# Altium footprint library IC SMD.PcbLib: 18 footprints (part 1 of 2)
Each footprint in its own frame and in the unit in brackets; x right, y up, seen from the top. Pads: shape width x height; smd on the part's side, far side on the other; paste and mask are expansions set on the pad; w line width, h text height; cw(c..) or ccw(c..) is an arc to the next point about the centre after c.
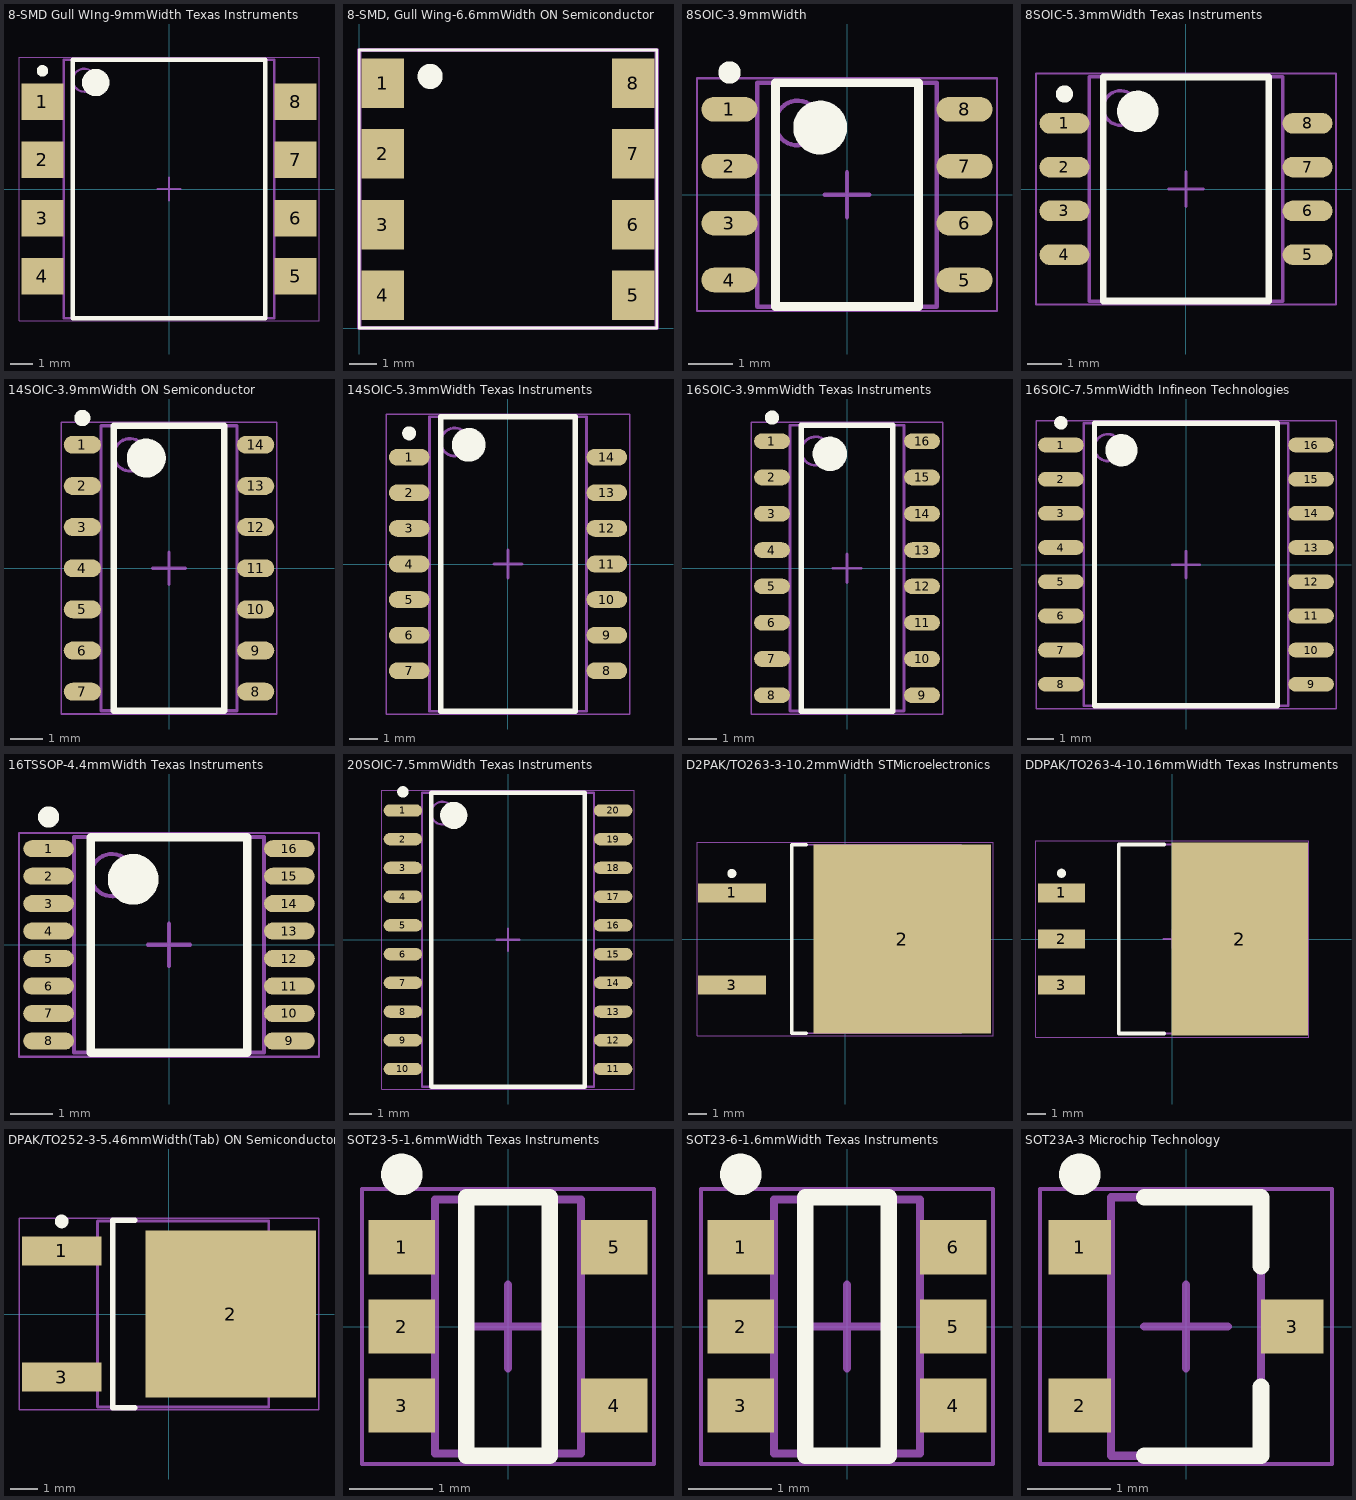
[diagram p0: the footprints below, top view; thin cyan lines are the x and y axes]

## 8-SMD Gull WIng-9mmWidth Texas Instruments [mm] "SOP, 8-Leads, Body 11.15x9.00mm, Pitch 2.54mm, IPC High Density"
height 4
pads (8):
  rect 1.85x1.6 smd: 1(-5.525,3.81) 2(-5.525,1.27) 3(-5.525,-1.27) 4(-5.525,-3.81) 5(5.525,-3.81) 6(5.525,-1.27) 7(5.525,1.27) 8(5.525,3.81)
Top Overlay:
  circle w0.6: c-3.2,4.65 r0.3
  circle w0.25: c-5.525,5.16 r0.125
  lines w0.2: -4.2,-5.65 4.2,-5.65 4.2,5.65 -4.2,5.65 -4.2,-5.65
Mechanical 13:
  circle w0.1: c-3.7,4.75 r0.5
  lines w0.1: -4.6,-5.65 4.6,-5.65 4.6,5.65 -4.6,5.65 -4.6,-5.65
Mechanical 15:
  lines w0.05: -6.55,-5.75 6.55,-5.75 6.55,5.75 -6.55,5.75 -6.55,-5.75
  lines w0.1: -0.5,0 0.5,0 ; 0,-0.5 0,0.5
  text "'.Designator'" at -2.475,2.475 h1
3D body: height 4, standoff 1, extent -4.6,-5.65 4.6,5.65

## 8-SMD, Gull Wing-6.6mmWidth ON Semiconductor [mm] "6.6mmWidth ON Semiconductor"
pads (8):
  rect 1.52x1.78 smd: 1(0.844,8.806) 2(0.844,6.265) 3(0.844,3.721) 4(0.844,1.18) 5(9.854,1.18) 6(9.854,3.721) 7(9.854,6.265) 8(9.854,8.806)
Top Overlay:
  circle w0.5: c2.55,9.05 r0.2
  lines w0.1: 0,0 10.7,0 10.7,10 0,10 0,0
Mechanical 15:
  lines w0.15: 0,0 10.7,0 10.7,10 0,10 0,0
  text "'.Designator'" at 2.875,5.775 h1

## 8SOIC-3.9mmWidth [mm] "SOIC, 8-Leads, Body 4.90x3.90mm, Pitch 1.27mm, IPC High Density"
height 1.65
pads (8):
  oval 1.25x0.55 smd: 1(-2.625,1.905) 2(-2.625,0.635) 3(-2.625,-0.635) 4(-2.625,-1.905) 5(2.625,-1.905) 6(2.625,-0.635) 7(2.625,0.635) 8(2.625,1.905)
Top Overlay:
  circle w0.6: c-0.6,1.5 r0.3
  circle w0.25: c-2.625,2.73 r0.125
  lines w0.2: -1.6,-2.5 1.6,-2.5 1.6,2.5 -1.6,2.5 -1.6,-2.5
Mechanical 13:
  circle w0.1: c-1.1,1.6 r0.5
  lines w0.1: -2,-2.5 2,-2.5 2,2.5 -2,2.5 -2,-2.5
Mechanical 15:
  lines w0.05: -3.35,-2.6 3.35,-2.6 3.35,2.6 -3.35,2.6 -3.35,-2.6
  lines w0.1: -0.5,0 0.5,0 ; 0,-0.5 0,0.5
  text "'.Designator'" at 0.725,2.275 h1
3D body: height 1.65, standoff 0.1, extent -2,-2.5 2,2.5

## 8SOIC-5.3mmWidth Texas Instruments [mm] "SOIC, 8-Leads, Body 6.20x5.30mm, Pitch 1.27mm, IPC High Density"
height 2
pads (8):
  oval 1.45x0.6 smd: 1(-3.525,1.905) 2(-3.525,0.635) 3(-3.525,-0.635) 4(-3.525,-1.905) 5(3.525,-1.905) 6(3.525,-0.635) 7(3.525,0.635) 8(3.525,1.905)
Top Overlay:
  circle w0.6: c-1.4,2.25 r0.3
  circle w0.25: c-3.525,2.755 r0.125
  lines w0.2: -2.4,-3.25 2.4,-3.25 2.4,3.25 -2.4,3.25 -2.4,-3.25
Mechanical 13:
  circle w0.1: c-1.9,2.35 r0.5
  lines w0.1: -2.8,-3.25 2.8,-3.25 2.8,3.25 -2.8,3.25 -2.8,-3.25
Mechanical 15:
  lines w0.05: -4.35,-3.35 4.35,-3.35 4.35,3.35 -4.35,3.35 -4.35,-3.35
  lines w0.1: -0.5,0 0.5,0 ; 0,-0.5 0,0.5
3D body: height 2, standoff 0.15, extent -2.8,-3.25 2.8,3.25

## 14SOIC-3.9mmWidth ON Semiconductor [mm] "SOIC, 14-Leads, Body 8.56x3.98mm, Pitch 1.27mm, IPC High Density"
height 1.65
pads (14):
  oval 1.15x0.55 smd: 1(-2.675,3.81) 2(-2.675,2.54) 3(-2.675,1.27) 4(-2.675,0) 5(-2.675,-1.27) 6(-2.675,-2.54) 7(-2.675,-3.81) 8(2.675,-3.81) 9(2.675,-2.54) 10(2.675,-1.27) 11(2.675,0) 12(2.675,1.27) 13(2.675,2.54) 14(2.675,3.81)
Top Overlay:
  circle w0.25: c-2.675,4.635 r0.125
  circle w0.6: c-0.7,3.4 r0.3
  lines w0.2: -1.7,-4.4 -1.7,4.4 1.7,4.4 1.7,-4.4 -1.7,-4.4
Mechanical 13:
  circle w0.1: c-1.2,3.5 r0.5
  lines w0.1: -2.1,-4.4 -2.1,4.4 2.1,4.4 2.1,-4.4 -2.1,-4.4
Mechanical 15:
  lines w0.05: -3.325,-4.5 -3.325,4.5 3.325,4.5 3.325,-4.5 -3.325,-4.5
  lines w0.1: -0.5,0 0.5,0 ; 0,-0.5 0,0.5
  text "'.Designator'" at 0.7,4.075 h1
3D body: height 1.65, standoff 0.1, extent -2.1,-4.4 2.1,4.4

## 14SOIC-5.3mmWidth Texas Instruments [mm] "SOIC, 14-Leads, Body 10.20x5.30mm, Pitch 1.27mm, IPC High Density"
height 2
pads (14):
  oval 1.45x0.6 smd: 1(-3.525,3.81) 2(-3.525,2.54) 3(-3.525,1.27) 4(-3.525,0) 5(-3.525,-1.27) 6(-3.525,-2.54) 7(-3.525,-3.81) 8(3.525,-3.81) 9(3.525,-2.54) 10(3.525,-1.27) 11(3.525,0) 12(3.525,1.27) 13(3.525,2.54) 14(3.525,3.81)
Top Overlay:
  circle w0.25: c-3.525,4.66 r0.125
  circle w0.6: c-1.4,4.25 r0.3
  lines w0.2: -2.4,-5.25 -2.4,5.25 2.4,5.25 2.4,-5.25 -2.4,-5.25
Mechanical 13:
  circle w0.1: c-1.9,4.35 r0.5
  lines w0.1: -2.8,-5.25 -2.8,5.25 2.8,5.25 2.8,-5.25 -2.8,-5.25
Mechanical 15:
  lines w0.05: -4.35,-5.35 -4.35,5.35 4.35,5.35 4.35,-5.35 -4.35,-5.35
  lines w0.1: -0.5,0 0.5,0 ; 0,-0.5 0,0.5
3D body: height 2, standoff 0.15, extent -2.8,-5.25 2.8,5.25

## 16SOIC-3.9mmWidth Texas Instruments [mm] "SOIC, 16-Leads, Body 9.90x3.90mm, Pitch 1.27mm, IPC High Density"
height 1.75
pads (16):
  oval 1.25x0.55 smd: 1(-2.625,4.445) 2(-2.625,3.175) 3(-2.625,1.905) 4(-2.625,0.635) 5(-2.625,-0.635) 6(-2.625,-1.905) 7(-2.625,-3.175) 8(-2.625,-4.445) 9(2.625,-4.445) 10(2.625,-3.175) 11(2.625,-1.905) 12(2.625,-0.635) 13(2.625,0.635) 14(2.625,1.905) 15(2.625,3.175) 16(2.625,4.445)
Top Overlay:
  circle w0.6: c-0.6,4 r0.3
  circle w0.25: c-2.625,5.27 r0.125
  lines w0.2: -1.6,-5 1.6,-5 1.6,5 -1.6,5 -1.6,-5
Mechanical 13:
  circle w0.1: c-1.1,4.1 r0.5
  lines w0.1: -2,-5 2,-5 2,5 -2,5 -2,-5
Mechanical 15:
  lines w0.05: -3.35,-5.1 3.35,-5.1 3.35,5.1 -3.35,5.1 -3.35,-5.1
  lines w0.1: -0.5,0 0.5,0 ; 0,-0.5 0,0.5
  text "'.Designator'" at 0.425,4.5 h1
3D body: height 1.75, standoff 0.1, extent -2,-5 2,5

## 16SOIC-7.5mmWidth Infineon Technologies [mm] "SOIC, 16-Leads, Body 10.30x7.50mm, Pitch 1.27mm, IPC High Density"
height 2.65
pads (16):
  oval 1.7x0.55 smd: 1(-4.65,4.445) 2(-4.65,3.175) 3(-4.65,1.905) 4(-4.65,0.635) 5(-4.65,-0.635) 6(-4.65,-1.905) 7(-4.65,-3.175) 8(-4.65,-4.445) 9(4.65,-4.445) 10(4.65,-3.175) 11(4.65,-1.905) 12(4.65,-0.635) 13(4.65,0.635) 14(4.65,1.905) 15(4.65,3.175) 16(4.65,4.445)
Top Overlay:
  circle w0.25: c-4.65,5.27 r0.125
  circle w0.6: c-2.4,4.25 r0.3
  lines w0.2: -3.4,-5.25 -3.4,5.25 3.4,5.25 3.4,-5.25 -3.4,-5.25
Mechanical 13:
  circle w0.1: c-2.9,4.35 r0.5
  lines w0.1: -3.8,-5.25 -3.8,5.25 3.8,5.25 3.8,-5.25 -3.8,-5.25
Mechanical 15:
  lines w0.05: -5.575,-5.35 -5.575,5.35 5.575,5.35 5.575,-5.35 -5.575,-5.35
  lines w0.1: -0.5,0 0.5,0 ; 0,-0.5 0,0.5
  text "'.Designator'" at -2.175,2.35 h1
3D body: height 2.65, standoff 0.1, extent -3.8,-5.25 3.8,5.25

## 16TSSOP-4.4mmWidth Texas Instruments [mm] "TSOP, 16-Leads, Body 5.00x4.40mm, Pitch 0.65mm, IPC High Density"
height 1.2
pads (16):
  oval 1.2x0.4 smd: 1(-2.85,2.275) 2(-2.85,1.625) 3(-2.85,0.975) 4(-2.85,0.325) 5(-2.85,-0.325) 6(-2.85,-0.975) 7(-2.85,-1.625) 8(-2.85,-2.275) 9(2.85,-2.275) 10(2.85,-1.625) 11(2.85,-0.975) 12(2.85,-0.325) 13(2.85,0.325) 14(2.85,0.975) 15(2.85,1.625) 16(2.85,2.275)
Top Overlay:
  circle w0.25: c-2.85,3.025 r0.125
  circle w0.6: c-0.85,1.55 r0.3
  lines w0.2: -1.85,-2.55 -1.85,2.55 1.85,2.55 1.85,-2.55 -1.85,-2.55
Mechanical 13:
  circle w0.1: c-1.35,1.65 r0.5
  lines w0.1: -2.25,-2.55 -2.25,2.55 2.25,2.55 2.25,-2.55 -2.25,-2.55
Mechanical 15:
  lines w0.05: -3.55,-2.65 -3.55,2.65 3.55,2.65 3.55,-2.65 -3.55,-2.65
  lines w0.1: -0.5,0 0.5,0 ; 0,-0.5 0,0.5
  text "'.Designator'" at 0.1,2.375 h0.8
3D body: height 1.2, standoff 0.15, extent -2.25,-2.55 2.25,2.55

## 20SOIC-7.5mmWidth Texas Instruments [mm] "SOIC, 20-Leads, Body 12.80x7.50mm, Pitch 1.27mm, IPC High Density"
height 2.65
pads (20):
  oval 1.7x0.55 smd: 1(-4.65,5.715) 2(-4.65,4.445) 3(-4.65,3.175) 4(-4.65,1.905) 5(-4.65,0.635) 6(-4.65,-0.635) 7(-4.65,-1.905) 8(-4.65,-3.175) 9(-4.65,-4.445) 10(-4.65,-5.715) 11(4.65,-5.715) 12(4.65,-4.445) 13(4.65,-3.175) 14(4.65,-1.905) 15(4.65,-0.635) 16(4.65,0.635) 17(4.65,1.905) 18(4.65,3.175) 19(4.65,4.445) 20(4.65,5.715)
Top Overlay:
  circle w0.25: c-4.65,6.54 r0.125
  circle w0.6: c-2.4,5.5 r0.3
  lines w0.2: -3.4,-6.5 -3.4,6.5 3.4,6.5 3.4,-6.5 -3.4,-6.5
Mechanical 13:
  circle w0.1: c-2.9,5.6 r0.5
  lines w0.1: -3.8,-6.5 -3.8,6.5 3.8,6.5 3.8,-6.5 -3.8,-6.5
Mechanical 15:
  lines w0.05: -5.575,-6.6 -5.575,6.6 5.575,6.6 5.575,-6.6 -5.575,-6.6
  lines w0.1: -0.5,0 0.5,0 ; 0,-0.5 0,0.5
  text "'.Designator'" at -2.575,2.3 h1
3D body: height 2.65, standoff 0.3, extent -3.8,-6.5 3.8,6.5

## D2PAK/TO263-3-10.2mmWidth STMicroelectronics [mm] "D2PAK/TO263-3-10.2mmWidth STMicroelectronics"
height 4.6
pads (3):
  rect 3.75x1.05 smd: 1(-6.25,2.54) 3(-6.25,-2.54)
  rect 9.8x10.45 smd: 2(3.15,0)
Top Overlay:
  circle w0.25: c-6.25,3.615 r0.125
  lines w0.2: -2.15,-5.2 -2.95,-5.2 -2.95,5.2 -2.15,5.2
Mechanical 13:
  lines w0.1: -2.95,-5.2 -2.95,5.2 6.4,5.2 6.4,-5.2 -2.95,-5.2
Mechanical 15:
  lines w0.05: -8.175,-5.325 -8.175,5.325 8.175,5.325 8.175,-5.325 -8.175,-5.325
  lines w0.1: -0.5,0 0.5,0 ; 0,-0.5 0,0.5
  text "'.Designator'" at -7.725,-0.075 h0.8
3D body: height 4.6, standoff 0.25, extent -2.95,-5.2 6.4,5.2

## DDPAK/TO263-4-10.16mmWidth Texas Instruments [mm] "DDPAK/TO263-4-10.16mmWidth Texas Instruments"
height 4.64
pads (4):
  rect 2.6x1.05 smd: 1(-6.1,2.54) 2(-6.1,0) 3(-6.1,-2.54)
  rect 7.5x10.6 smd: 2(3.7,0)
Top Overlay:
  circle w0.25: c-6.1,3.615 r0.125
  lines w0.2: -0.45,-5.2 -2.95,-5.2 -2.95,5.2 -0.45,5.2
Mechanical 13:
  lines w0.1: -2.95,-5.2 5.94,-5.2 5.94,5.2 -2.95,5.2 -2.95,-5.2
Mechanical 15:
  lines w0.05: -7.5,-5.4 7.5,-5.4 7.5,5.4 -7.5,5.4 -7.5,-5.4
  lines w0.1: -0.5,0 0.5,0 ; 0,-0.5 0,0.5
  text "'.Designator'" at -4.075,2.85 h0.8
3D body: height 4.64, standoff 0.15, extent -2.95,-5.2 5.94,5.2

## DPAK/TO252-3-5.46mmWidth(Tab) ON Semiconductor [mm] "DPAK/TO252-3-5.46mmWidth(Tab)-6.73mmWidth(Body) ON Semiconductor"
height 2.38
pads (3):
  rect 2.9x1.05 smd: 1(-3.9,2.29) 3(-3.9,-2.29)
  rect 6.2x6.05 smd: 2(2.25,0)
Top Overlay:
  circle w0.25: c-3.9,3.365 r0.125
  lines w0.2: -1.25,-3.4 -2.05,-3.4 -2.05,3.4 -1.25,3.4
Mechanical 13:
  lines w0.1: -2.6,-3.375 -2.6,3.375 3.62,3.375 3.62,-3.375 -2.6,-3.375
Mechanical 15:
  lines w0.05: -5.45,-3.475 -5.45,3.475 5.45,3.475 5.45,-3.475 -5.45,-3.475
  lines w0.1: -0.5,0 0.5,0 ; 0,-0.5 0,0.5
  text "'.Designator'" at -5.25,0.125 h0.8
3D body: height 2.38, standoff 0.13, extent -2.6,-3.375 3.62,3.375

## SOT23-5-1.6mmWidth Texas Instruments [mm] "SOT23, 5-Leads, Body 2.90x1.60mm, Pitch 0.95mm, IPC High Density"
height 1.45
pads (5):
  rect 0.8x0.65 smd: 1(-1.275,0.95) 2(-1.275,0) 3(-1.275,-0.95) 4(1.275,-0.95) 5(1.275,0.95)
Top Overlay:
  circle w0.25: c-1.275,1.825 r0.125
  lines w0.2: -0.5,-1.55 0.5,-1.55 0.5,1.55 -0.5,1.55 -0.5,-1.55
Mechanical 13:
  lines w0.1: -0.875,-1.525 -0.875,1.525 0.875,1.525 0.875,-1.525 -0.875,-1.525
Mechanical 15:
  lines w0.05: -1.75,-1.65 -1.75,1.65 1.75,1.65 1.75,-1.65 -1.75,-1.65
  lines w0.1: -0.5,0 0.5,0 ; 0,-0.5 0,0.5
  text "'.Designator'" at -0.125,1.425 h0.5
3D body: height 1.45, standoff 0.15, extent -0.875,-1.525 0.875,1.525

## SOT23-6-1.6mmWidth Texas Instruments [mm] "SOT23, 6-Leads, Body 2.90x1.60mm, Pitch 0.95mm, IPC High Density"
height 1.45
pads (6):
  rect 0.8x0.65 smd: 1(-1.275,0.95) 2(-1.275,0) 3(-1.275,-0.95) 4(1.275,-0.95) 5(1.275,0) 6(1.275,0.95)
Top Overlay:
  circle w0.25: c-1.275,1.825 r0.125
  lines w0.2: -0.5,-1.55 0.5,-1.55 0.5,1.55 -0.5,1.55 -0.5,-1.55
Mechanical 13:
  lines w0.1: -0.875,-1.525 -0.875,1.525 0.875,1.525 0.875,-1.525 -0.875,-1.525
Mechanical 15:
  lines w0.05: -1.75,-1.65 -1.75,1.65 1.75,1.65 1.75,-1.65 -1.75,-1.65
  lines w0.1: -0.5,0 0.5,0 ; 0,-0.5 0,0.5
  text "'.Designator'" at -0.15,1.35 h0.5
3D body: height 1.45, standoff 0.15, extent -0.875,-1.525 0.875,1.525

## SOT23A-3 Microchip Technology [mm] "SOT23, 3-Leads, Body 2.90x2.75mm, Pitch 0.95mm, IPC High Density"
height 1.45
pads (3):
  rect 0.75x0.65 smd: 1(-1.275,0.95) 2(-1.275,-0.95) 3(1.275,0)
Top Overlay:
  circle w0.25: c-1.275,1.825 r0.125
  lines w0.2: -0.5,-1.55 0.9,-1.55 0.9,-0.725 ; -0.5,1.55 0.9,1.55 0.9,0.725
Mechanical 13:
  lines w0.1: -0.9,-1.55 0.9,-1.55 0.9,1.55 -0.9,1.55 -0.9,-1.55
Mechanical 15:
  lines w0.05: -1.75,-1.65 1.75,-1.65 1.75,1.65 -1.75,1.65 -1.75,-1.65
  lines w0.1: -0.5,0 0.5,0 ; 0,-0.5 0,0.5
  text "'Designator'" at -0.175,1.3 h0.7
3D body: height 1.45, standoff 0.15, extent -0.9,-1.55 0.9,1.55